# EAGLE library part 1901ВЦ1Т (library mcu)
АЕЯР.431280.744 ТУ 1901ВЦ1Т - двухъядерный микроконтроллер: 32-разрядное RISC-ядро (Cortex-M3) с тактовой частотой до 100 МГц, 16-разрядное DSP-ядро с тактовой частотой до 100 МГц. Производитель: АО "ПКК Миландр", г. Москва, Зеленоград. Технические условия: АЕЯР.431280.744 ТУ
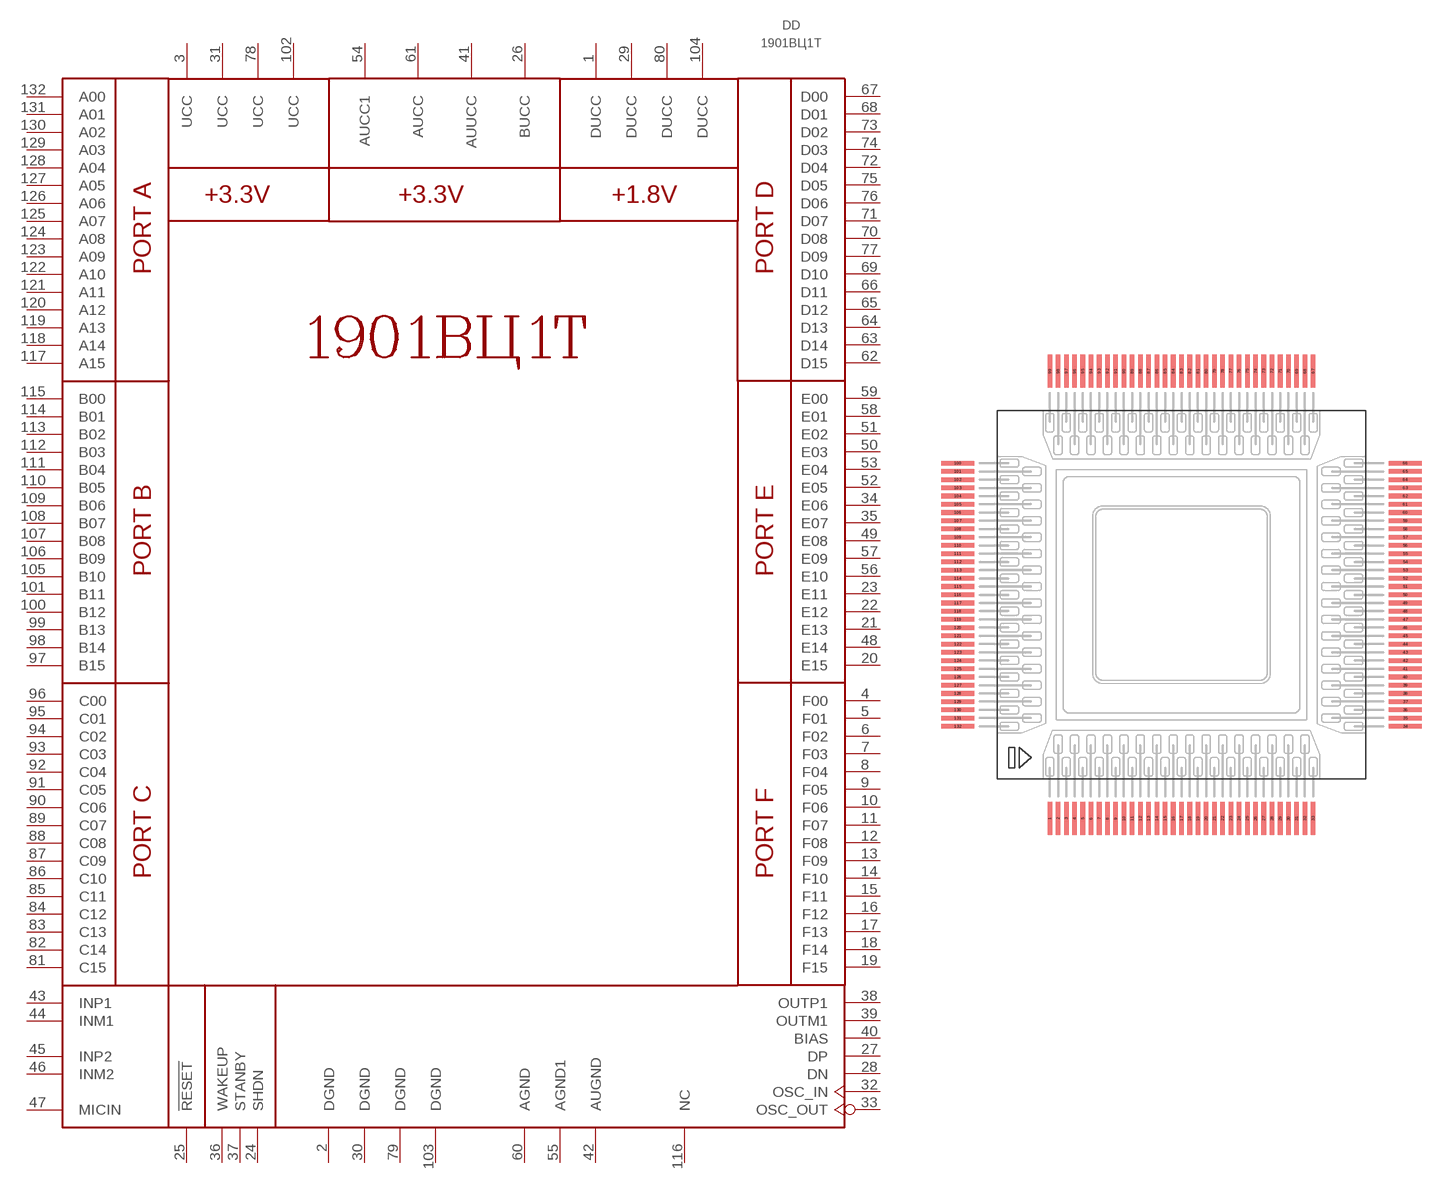
[diagram p3: symbol with the pads of 4229.132-3; footprint 4229.132-3]

Designator prefix DD

## 1901ВЦ1Т  [4229.132-3]
1  DUCC  pwr
2  DGND  pwr
3  UCC  pwr
4  F00
5  F01
6  F02
7  F03
8  F04
9  F05
10  F06
11  F07
12  F08
13  F09
14  F10
15  F11
16  F12
17  F13
18  F14
19  F15
20  E15
21  E13
22  E12
23  E11
24  SHDN
25  !RESET
26  BUCC  pwr
27  DP
28  DN
29  DUCC  pwr
30  DGND  pwr
31  UCC  pwr
32  OSC_IN
33  OSC_OUT
34  E06
35  E07
36  WAKEUP
37  STANBY
38  OUTP1
39  OUTM1
40  BIAS
41  AUUCC  pwr
42  AUGND  pwr
43  INP1
44  INM1
45  INP2
46  INM2
47  MICIN
48  E14
49  E08
50  E03
51  E02
52  E05
53  E04
54  AUCC1  pwr
55  AGND1  pwr
56  E10
57  E09
58  E01
59  E00
60  AGND  pwr
61  AUCC  pwr
62  D15
63  D14
64  D13
65  D12
66  D11
67  D00
68  D01
69  D10
70  D08
71  D07
72  D04
73  D02
74  D03
75  D05
76  D06
77  D09
78  UCC  pwr
79  DGND  pwr
80  DUCC  pwr
81  C15
82  C14
83  C13
84  C12
85  C11
86  C10
87  C09
88  C08
89  C07
90  C06
91  C05
92  C04
93  C03
94  C02
95  C01
96  C00
97  B15
98  B14
99  B13
100  B12
101  B11
102  UCC  pwr
103  DGND  pwr
104  DUCC  pwr
105  B10
106  B09
107  B08
108  B07
109  B06
110  B05
111  B04
112  B03
113  B02
114  B01
115  B00
116  NC  nc
117  A15
118  A14
119  A13
120  A12
121  A11
122  A10
123  A09
124  A08
125  A07
126  A06
127  A05
128  A04
129  A03
130  A02
131  A01
132  A00

## Footprint 4229.132-3 (pad centres in mm)
smd 0.35 x 2.5: 1 -10,-17; 2 -9.375,-17; 3 -8.75,-17; 4 -8.125,-17; 5 -7.5,-17; 6 -6.875,-17; 7 -6.25,-17; 8 -5.625,-17; 9 -5,-17; 10 -4.375,-17; 11 -3.75,-17; 12 -3.125,-17; 13 -2.5,-17; 14 -1.875,-17; 15 -1.25,-17; 16 -0.625,-17; 17 0,-17; 18 0.625,-17; 19 1.25,-17; 20 1.875,-17; 21 2.5,-17; 22 3.125,-17; 23 3.75,-17; 24 4.375,-17; 25 5,-17; 26 5.625,-17; 27 6.25,-17; 28 6.875,-17; 29 7.5,-17; 30 8.125,-17; 31 8.75,-17; 32 9.375,-17; 33 10,-17; 67 10,17; 68 9.375,17; 69 8.75,17; 70 8.125,17; 71 7.5,17; 72 6.875,17; 73 6.25,17; 74 5.625,17; 75 5,17; 76 4.375,17; 77 3.75,17; 78 3.125,17; 79 2.5,17; 80 1.875,17; 81 1.25,17; 82 0.625,17; 83 0,17; 84 -0.625,17; 85 -1.25,17; 86 -1.875,17; 87 -2.5,17; 88 -3.125,17; 89 -3.75,17; 90 -4.375,17; 91 -5,17; 92 -5.625,17; 93 -6.25,17; 94 -6.875,17; 95 -7.5,17; 96 -8.125,17; 97 -8.75,17; 98 -9.375,17; 99 -10,17
smd 2.5 x 0.35: 34 17,-10; 35 17,-9.375; 36 17,-8.75; 37 17,-8.125; 38 17,-7.5; 39 17,-6.875; 40 17,-6.25; 41 17,-5.625; 42 17,-5; 43 17,-4.375; 44 17,-3.75; 45 17,-3.125; 46 17,-2.5; 47 17,-1.875; 48 17,-1.25; 49 17,-0.625; 50 17,0; 51 17,0.625; 52 17,1.25; 53 17,1.875; 54 17,2.5; 55 17,3.125; 56 17,3.75; 57 17,4.375; 58 17,5; 59 17,5.625; 60 17,6.25; 61 17,6.875; 62 17,7.5; 63 17,8.125; 64 17,8.75; 65 17,9.375; 66 17,10; 100 -17,10; 101 -17,9.375; 102 -17,8.75; 103 -17,8.125; 104 -17,7.5; 105 -17,6.875; 106 -17,6.25; 107 -17,5.625; 108 -17,5; 109 -17,4.375; 110 -17,3.75; 111 -17,3.125; 112 -17,2.5; 113 -17,1.875; 114 -17,1.25; 115 -17,0.625; 116 -17,0; 117 -17,-0.625; 118 -17,-1.25; 119 -17,-1.875; 120 -17,-2.5; 121 -17,-3.125; 122 -17,-3.75; 123 -17,-4.375; 124 -17,-5; 125 -17,-5.625; 126 -17,-6.25; 127 -17,-6.875; 128 -17,-7.5; 129 -17,-8.125; 130 -17,-8.75; 131 -17,-9.375; 132 -17,-10